# EAGLE library part 103308-5 (library 103308-5)
020 LOPRO HDR SP 15DP Check availability <https://pricing.snapeda.com/parts/103308-5/TE%20Connectivity/view-part?ref=eda>
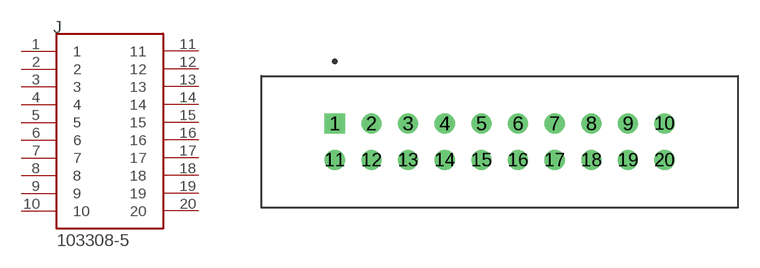
[diagram p0: symbol with the pads of TE_103308-5; footprint TE_103308-5]

Designator prefix J

## 103308-5 (Availability: In Stock; Centerline_Pitch: 2.54 mm[.1 in]; Check_prices: https://www.snapeda.com/parts/103308-5/TE+Connectivity+AMP+Connectors/view-part/?ref=eda; Comment: 103308-5; Description: Connector Shrouded Header 20 Position 2.54mm Solder Straight Thru-Hole; EU_RoHS_Compliance: Not Compliant; MF: TE Connectivity; MP: 103308-5; Number_of_Positions: 20; Package: None; Price: None; Product_Type: Connector; Purchase-URL: https://pricing.snapeda.com/search?q=103308-5&ref=eda; SnapEDA_Link: https://www.snapeda.com/parts/103308-5/TE+Connectivity+AMP+Connectors/view-part/?ref=snap)  [TE_103308-5]
1  1  pas
2  2  pas
3  3  pas
4  4  pas
5  5  pas
6  6  pas
7  7  pas
8  8  pas
9  9  pas
10  10  pas
11  11  pas
12  12  pas
13  13  pas
14  14  pas
15  15  pas
16  16  pas
17  17  pas
18  18  pas
19  19  pas
20  20  pas

## Footprint TE_103308-5 (pad centres in mm)
drill 0.889 square: 1 -11.43,1.27
drill 0.889: 2 -8.89,1.27; 3 -6.35,1.27; 4 -3.81,1.27; 5 -1.27,1.27; 6 1.27,1.27; 7 3.81,1.27; 8 6.35,1.27; 9 8.89,1.27; 10 11.43,1.27; 11 -11.43,-1.27; 12 -8.89,-1.27; 13 -6.35,-1.27; 14 -3.81,-1.27; 15 -1.27,-1.27; 16 1.27,-1.27; 17 3.81,-1.27; 18 6.35,-1.27; 19 8.89,-1.27; 20 11.43,-1.27